# Altium schematic symbol library 613 0xx 143 121.SchLib: 24 symbols
Pins are listed as number, name and electrical type; pins without a type are passive.

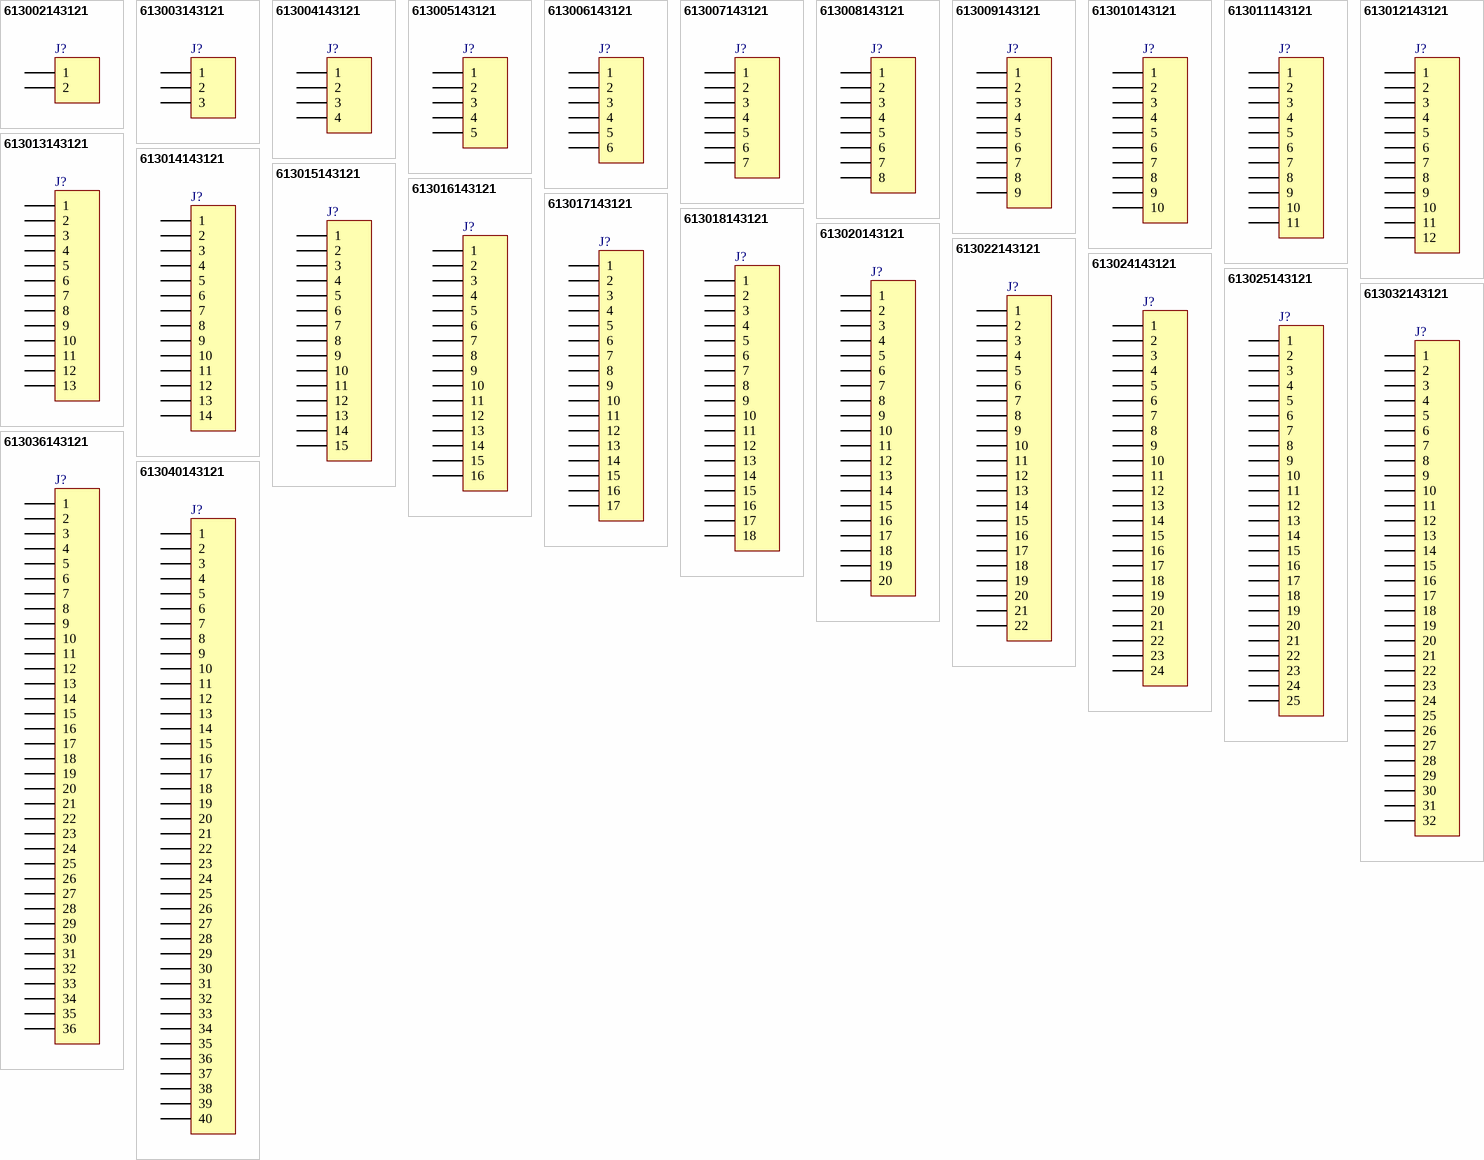
[diagram p0: symbols 613002143121 to 613040143121]

## 613002143121
designator J?, comment 02p  (value not drawn)
WR-PHD 2.54 mm Angled Socket Header, 02p; PartNumber: 613002143121; PublishedDate: July 2016; Publisher: Wurth Elektronik; ComponentLink1Description: Manufacturer; ComponentLink1URL: http://www.we-online.de; ComponentLink2Description: Datasheet; ComponentLink2URL: http://katalog.we-online.de/em/datasheet/6130xx143121.pdf; PinNumber: 02p
footprint 613002143121
pins: 1, 2

## 613003143121
designator J?, comment 03p  (value not drawn)
WR-PHD 2.54 mm Angled Socket Header, 03p; PartNumber: 613003143121; PublishedDate: July 2016; Publisher: Wurth Elektronik; ComponentLink1Description: Manufacturer; ComponentLink1URL: http://www.we-online.de; ComponentLink2Description: Datasheet; ComponentLink2URL: http://katalog.we-online.de/em/datasheet/6130xx143121.pdf; PinNumber: 03p
footprint 613003143121
pins: 1, 2, 3

## 613004143121
designator J?, comment 04p  (value not drawn)
WR-PHD 2.54 mm Angled Socket Header, 04p; PartNumber: 613004143121; PublishedDate: July 2016; Publisher: Wurth Elektronik; ComponentLink1Description: Manufacturer; ComponentLink1URL: http://www.we-online.de; ComponentLink2Description: Datasheet; ComponentLink2URL: http://katalog.we-online.de/em/datasheet/6130xx143121.pdf; PinNumber: 04p
footprint 613004143121
pins: 1, 2, 3, 4

## 613005143121
designator J?, comment 05p  (value not drawn)
WR-PHD 2.54 mm Angled Socket Header, 05p; PartNumber: 613005143121; PublishedDate: July 2016; Publisher: Wurth Elektronik; ComponentLink1Description: Manufacturer; ComponentLink1URL: http://www.we-online.de; ComponentLink2Description: Datasheet; ComponentLink2URL: http://katalog.we-online.de/em/datasheet/6130xx143121.pdf; PinNumber: 05p
footprint 613005143121
pins: 1, 2, 3, 4, 5

## 613006143121
designator J?, comment 06p  (value not drawn)
WR-PHD 2.54 mm Angled Socket Header, 06p; PartNumber: 613006143121; PublishedDate: July 2016; Publisher: Wurth Elektronik; ComponentLink1Description: Manufacturer; ComponentLink1URL: http://www.we-online.de; ComponentLink2Description: Datasheet; ComponentLink2URL: http://katalog.we-online.de/em/datasheet/6130xx143121.pdf; PinNumber: 06p
footprint 613006143121
pins: 1, 2, 3, 4, 5, 6

## 613007143121
designator J?, comment 07p  (value not drawn)
WR-PHD 2.54 mm Angled Socket Header, 07p; PartNumber: 613007143121; PublishedDate: July 2016; Publisher: Wurth Elektronik; ComponentLink1Description: Manufacturer; ComponentLink1URL: http://www.we-online.de; ComponentLink2Description: Datasheet; ComponentLink2URL: http://katalog.we-online.de/em/datasheet/6130xx143121.pdf; PinNumber: 07p
footprint 613007143121
pins: 1, 2, 3, 4, 5, 6, 7

## 613008143121
designator J?, comment 08p  (value not drawn)
WR-PHD 2.54 mm Angled Socket Header, 08p; PartNumber: 613008143121; PublishedDate: July 2016; Publisher: Wurth Elektronik; ComponentLink1Description: Manufacturer; ComponentLink1URL: http://www.we-online.de; ComponentLink2Description: Datasheet; ComponentLink2URL: http://katalog.we-online.de/em/datasheet/6130xx143121.pdf; PinNumber: 08p
footprint 613008143121
pins: 1, 2, 3, 4, 5, 6, 7, 8

## 613009143121
designator J?, comment 09p  (value not drawn)
WR-PHD 2.54 mm Angled Socket Header, 09p; PartNumber: 613009143121; PublishedDate: July 2016; Publisher: Wurth Elektronik; ComponentLink1Description: Manufacturer; ComponentLink1URL: http://www.we-online.de; ComponentLink2Description: Datasheet; ComponentLink2URL: http://katalog.we-online.de/em/datasheet/6130xx143121.pdf; PinNumber: 09p
footprint 613009143121
pins: 1, 2, 3, 4, 5, 6, 7, 8, 9

## 613010143121
designator J?, comment 10p  (value not drawn)
WR-PHD 2.54 mm Angled Socket Header, 10p; PartNumber: 613010143121; PublishedDate: July 2016; Publisher: Wurth Elektronik; ComponentLink1Description: Manufacturer; ComponentLink1URL: http://www.we-online.de; ComponentLink2Description: Datasheet; ComponentLink2URL: http://katalog.we-online.de/em/datasheet/6130xx143121.pdf; PinNumber: 10p
footprint 613010143121
pins: 1, 2, 3, 4, 5, 6, 7, 8, 9, 10

## 613011143121
designator J?, comment 11p  (value not drawn)
WR-PHD 2.54 mm Angled Socket Header, 11p; PartNumber: 613011143121; PublishedDate: July 2016; Publisher: Wurth Elektronik; ComponentLink1Description: Manufacturer; ComponentLink1URL: http://www.we-online.de; ComponentLink2Description: Datasheet; ComponentLink2URL: http://katalog.we-online.de/em/datasheet/6130xx143121.pdf; PinNumber: 11p
footprint 613011143121
pins: 1, 2, 3, 4, 5, 6, 7, 8, 9, 10, 11

## 613012143121
designator J?, comment 12p  (value not drawn)
WR-PHD 2.54 mm Angled Socket Header, 12p; PartNumber: 613012143121; PublishedDate: July 2016; Publisher: Wurth Elektronik; ComponentLink1Description: Manufacturer; ComponentLink1URL: http://www.we-online.de; ComponentLink2Description: Datasheet; ComponentLink2URL: http://katalog.we-online.de/em/datasheet/6130xx143121.pdf; PinNumber: 12p
footprint 613012143121
pins: 1, 2, 3, 4, 5, 6, 7, 8, 9, 10, 11, 12

## 613013143121
designator J?, comment 13p  (value not drawn)
WR-PHD 2.54 mm Angled Socket Header, 13p; PartNumber: 613013143121; PublishedDate: July 2016; Publisher: Wurth Elektronik; ComponentLink1Description: Manufacturer; ComponentLink1URL: http://www.we-online.de; ComponentLink2Description: Datasheet; ComponentLink2URL: http://katalog.we-online.de/em/datasheet/6130xx143121.pdf; PinNumber: 13p
footprint 613013143121
pins: 1, 2, 3, 4, 5, 6, 7, 8, 9, 10, 11, 12, 13

## 613014143121
designator J?, comment 14p  (value not drawn)
WR-PHD 2.54 mm Angled Socket Header, 14p; PartNumber: 613014143121; PublishedDate: July 2016; Publisher: Wurth Elektronik; ComponentLink1Description: Manufacturer; ComponentLink1URL: http://www.we-online.de; ComponentLink2Description: Datasheet; ComponentLink2URL: http://katalog.we-online.de/em/datasheet/6130xx143121.pdf; PinNumber: 14p
footprint 613014143121
pins: 1, 2, 3, 4, 5, 6, 7, 8, 9, 10, 11, 12, 13, 14

## 613015143121
designator J?, comment 15p  (value not drawn)
WR-PHD 2.54 mm Angled Socket Header, 15p; PartNumber: 613015143121; PublishedDate: July 2016; Publisher: Wurth Elektronik; ComponentLink1Description: Manufacturer; ComponentLink1URL: http://www.we-online.de; ComponentLink2Description: Datasheet; ComponentLink2URL: http://katalog.we-online.de/em/datasheet/6130xx143121.pdf; PinNumber: 15p
footprint 613015143121
pins: 1, 2, 3, 4, 5, 6, 7, 8, 9, 10, 11, 12, 13, 14, 15

## 613016143121
designator J?, comment 16p  (value not drawn)
WR-PHD 2.54 mm Angled Socket Header, 16p; PartNumber: 613016143121; PublishedDate: July 2016; Publisher: Wurth Elektronik; ComponentLink1Description: Manufacturer; ComponentLink1URL: http://www.we-online.de; ComponentLink2Description: Datasheet; ComponentLink2URL: http://katalog.we-online.de/em/datasheet/6130xx143121.pdf; PinNumber: 16p
footprint 613016143121
pins: 1, 2, 3, 4, 5, 6, 7, 8, 9, 10, 11, 12, 13, 14, 15, 16

## 613017143121
designator J?, comment 17p  (value not drawn)
WR-PHD 2.54 mm Angled Socket Header, 17p; PartNumber: 613017143121; PublishedDate: July 2016; Publisher: Wurth Elektronik; ComponentLink1Description: Manufacturer; ComponentLink1URL: http://www.we-online.de; ComponentLink2Description: Datasheet; ComponentLink2URL: http://katalog.we-online.de/em/datasheet/6130xx143121.pdf; PinNumber: 17p
footprint 613017143121
pins: 1, 2, 3, 4, 5, 6, 7, 8, 9, 10, 11, 12, 13, 14, 15, 16, 17

## 613018143121
designator J?, comment 18p  (value not drawn)
WR-PHD 2.54 mm Angled Socket Header, 18p; PartNumber: 613018143121; PublishedDate: July 2016; Publisher: Wurth Elektronik; ComponentLink1Description: Manufacturer; ComponentLink1URL: http://www.we-online.de; ComponentLink2Description: Datasheet; ComponentLink2URL: http://katalog.we-online.de/em/datasheet/6130xx143121.pdf; PinNumber: 18p
footprint 613018143121
pins: 1, 2, 3, 4, 5, 6, 7, 8, 9, 10, 11, 12, 13, 14, 15, 16, 17, 18

## 613020143121
designator J?, comment 20p  (value not drawn)
WR-PHD 2.54 mm Angled Socket Header, 20p; PartNumber: 613020143121; PublishedDate: July 2016; Publisher: Wurth Elektronik; ComponentLink1Description: Manufacturer; ComponentLink1URL: http://www.we-online.de; ComponentLink2Description: Datasheet; ComponentLink2URL: http://katalog.we-online.de/em/datasheet/6130xx143121.pdf; PinNumber: 20p
footprint 613020143121
pins: 1, 2, 3, 4, 5, 6, 7, 8, 9, 10, 11, 12, 13, 14, 15, 16, 17, 18, 19, 20

## 613022143121
designator J?, comment 22p  (value not drawn)
WR-PHD 2.54 mm Angled Socket Header, 22p; PartNumber: 613022143121; PublishedDate: July 2016; Publisher: Wurth Elektronik; ComponentLink1Description: Manufacturer; ComponentLink1URL: http://www.we-online.de; ComponentLink2Description: Datasheet; ComponentLink2URL: http://katalog.we-online.de/em/datasheet/6130xx143121.pdf; PinNumber: 22p
footprint 613022143121
pins: 1, 2, 3, 4, 5, 6, 7, 8, 9, 10, 11, 12, 13, 14, 15, 16, 17, 18, 19, 20, 21, 22

## 613024143121
designator J?, comment 24p  (value not drawn)
WR-PHD 2.54 mm Angled Socket Header, 24p; PartNumber: 613024143121; PublishedDate: July 2016; Publisher: Wurth Elektronik; ComponentLink1Description: Manufacturer; ComponentLink1URL: http://www.we-online.de; ComponentLink2Description: Datasheet; ComponentLink2URL: http://katalog.we-online.de/em/datasheet/6130xx143121.pdf; PinNumber: 24p
footprint 613024143121
pins: 1, 2, 3, 4, 5, 6, 7, 8, 9, 10, 11, 12, 13, 14, 15, 16, 17, 18, 19, 20, 21, 22, 23, 24

## 613025143121
designator J?, comment 25p  (value not drawn)
WR-PHD 2.54 mm Angled Socket Header, 25p; PartNumber: 613025143121; PublishedDate: July 2016; Publisher: Wurth Elektronik; ComponentLink1Description: Manufacturer; ComponentLink1URL: http://www.we-online.de; ComponentLink2Description: Datasheet; ComponentLink2URL: http://katalog.we-online.de/em/datasheet/6130xx143121.pdf; PinNumber: 25p
footprint 613025143121
pins: 1, 2, 3, 4, 5, 6, 7, 8, 9, 10, 11, 12, 13, 14, 15, 16, 17, 18, 19, 20, 21, 22, 23, 24, 25

## 613032143121
designator J?, comment 32p  (value not drawn)
WR-PHD 2.54 mm Angled Socket Header, 32p; PartNumber: 613032143121; PublishedDate: July 2016; Publisher: Wurth Elektronik; ComponentLink1Description: Manufacturer; ComponentLink1URL: http://www.we-online.de; ComponentLink2Description: Datasheet; ComponentLink2URL: http://katalog.we-online.de/em/datasheet/6130xx143121.pdf; PinNumber: 32p
footprint 613032143121
pins: 1, 2, 3, 4, 5, 6, 7, 8, 9, 10, 11, 12, 13, 14, 15, 16, 17, 18, 19, 20, 21, 22, 23, 24, 25, 26, 27, 28, 29, 30, 31, 32

## 613036143121
designator J?, comment 36p  (value not drawn)
WR-PHD 2.54 mm Angled Socket Header, 36p; PartNumber: 613036143121; PublishedDate: July 2016; Publisher: Wurth Elektronik; ComponentLink1Description: Manufacturer; ComponentLink1URL: http://www.we-online.de; ComponentLink2Description: Datasheet; ComponentLink2URL: http://katalog.we-online.de/em/datasheet/6130xx143121.pdf; PinNumber: 36p
footprint 613036143121
pins: 1, 2, 3, 4, 5, 6, 7, 8, 9, 10, 11, 12, 13, 14, 15, 16, 17, 18, 19, 20, 21, 22, 23, 24, 25, 26, 27, 28, 29, 30, 31, 32, 33, 34, 35, 36

## 613040143121
designator J?, comment 40p  (value not drawn)
WR-PHD 2.54 mm Angled Socket Header, 40p; PartNumber: 613040143121; PublishedDate: July 2016; Publisher: Wurth Elektronik; ComponentLink1Description: Manufacturer; ComponentLink1URL: http://www.we-online.de; ComponentLink2Description: Datasheet; ComponentLink2URL: http://katalog.we-online.de/em/datasheet/6130xx143121.pdf; PinNumber: 40p
footprint 613040143121
pins: 1, 2, 3, 4, 5, 6, 7, 8, 9, 10, 11, 12, 13, 14, 15, 16, 17, 18, 19, 20, 21, 22, 23, 24, 25, 26, 27, 28, 29, 30, 31, 32, 33, 34, 35, 36, 37, 38, 39, 40